# Altium footprint library LVR040K-2.PcbLib: 1 footprints
Each footprint in its own frame and in the unit in brackets; x right, y up, seen from the top. Pads: shape width x height; smd on the part's side, far side on the other; paste and mask are expansions set on the pad; w line width, h text height; cw(c..) or ccw(c..) is an arc to the next point about the centre after c.
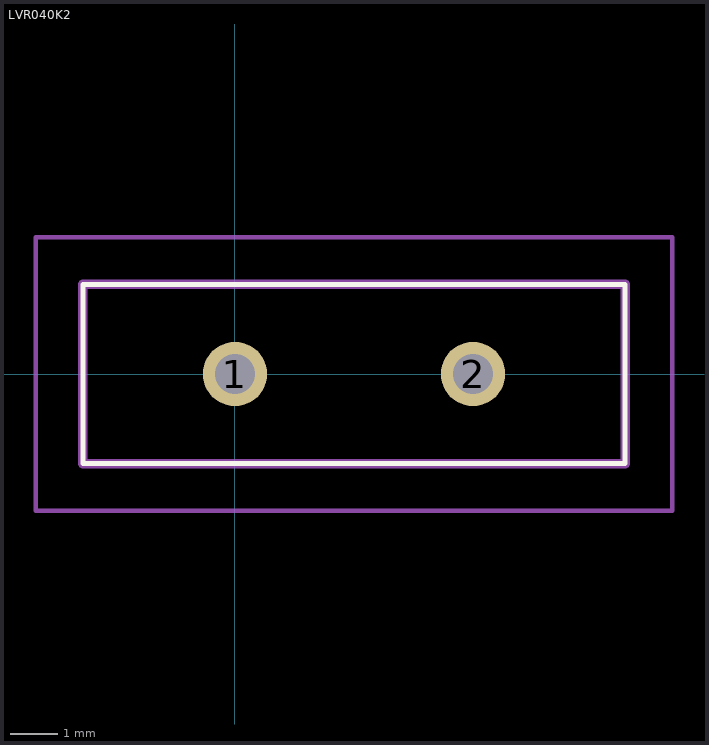
[diagram p0: the footprint, top view; thin cyan lines are the x and y axes]

## LVR040K2 [mm]
pads (2):
  round 1.365 hole 0.84: 1(0,0) 2(5.05,0)
Top Overlay:
  lines w0.1: -3.225,-1.9 8.275,-1.9 8.275,1.9 -3.225,1.9 -3.225,-1.9
Mechanical 13:
  lines w0.2: -3.225,-1.9 8.275,-1.9 8.275,1.9 -3.225,1.9 -3.225,-1.9
Mechanical 15:
  lines w0.1: -4.225,-2.9 9.275,-2.9 9.275,2.9 -4.225,2.9 -4.225,-2.9
3D body "LVR040K-2.stp": height 21, standoff -5, extent -3.225,-1.9 8.275,1.9